# Altium footprint library PowerDI5.PcbLib: 1 footprints
Each footprint in its own frame and in the unit in brackets; x right, y up, seen from the top. Pads: shape width x height; smd on the part's side, far side on the other; paste and mask are expansions set on the pad; w line width, h text height; cw(c..) or ccw(c..) is an arc to the next point about the centre after c.
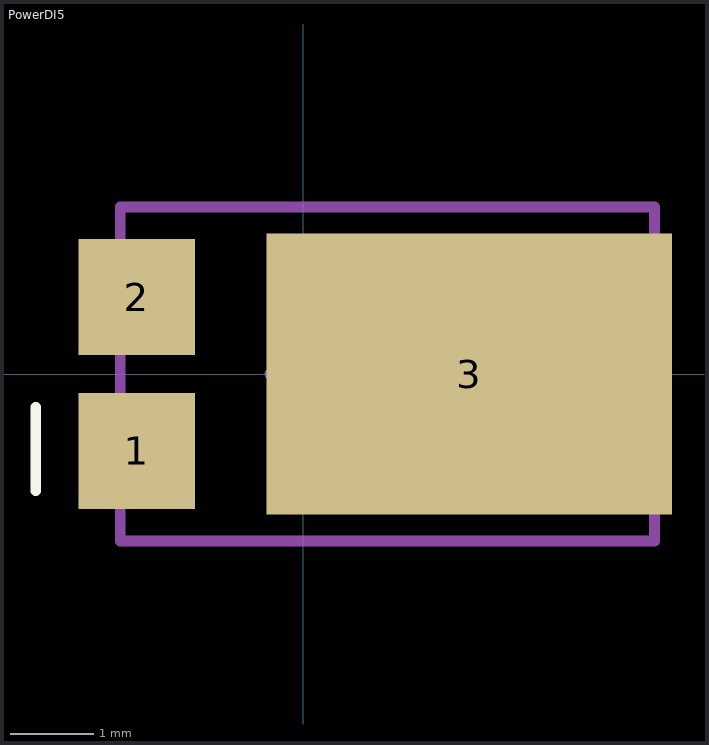
[diagram p0: the footprint, top view; thin cyan lines are the x and y axes]

## PowerDI5 [mm]
pads (3):
  rect 1.4x1.39 smd mask+0.1: 1(-1.991,-0.92) 2(-1.991,0.92)
  rect 4.86x3.36 smd mask+0.1: 3(1.991,0)
Top Overlay:
  lines w0.127: -3.2,-1.4 -3.2,-0.4
Mechanical 13:
  lines w0.127: -2.191,-2 4.209,-2 4.209,2 -2.191,2 -2.191,-2
Mechanical 15:
  lines w0.127: -0.4,0 0,0 ; 0,-0.4 0,0 ; 0,0.4 0,0 ; 0.4,0 0,0
3D body "PowerDI5.stp": height 1.1, standoff 0, extent -2.255,-1.96 4.253,2.01